# Altium footprint library pira-smart-pcblib.PcbLib: 9 footprints
Each footprint in its own frame and in the unit in brackets; x right, y up, seen from the top. Pads: shape width x height; smd on the part's side, far side on the other; paste and mask are expansions set on the pad; w line width, h text height; cw(c..) or ccw(c..) is an arc to the next point about the centre after c.
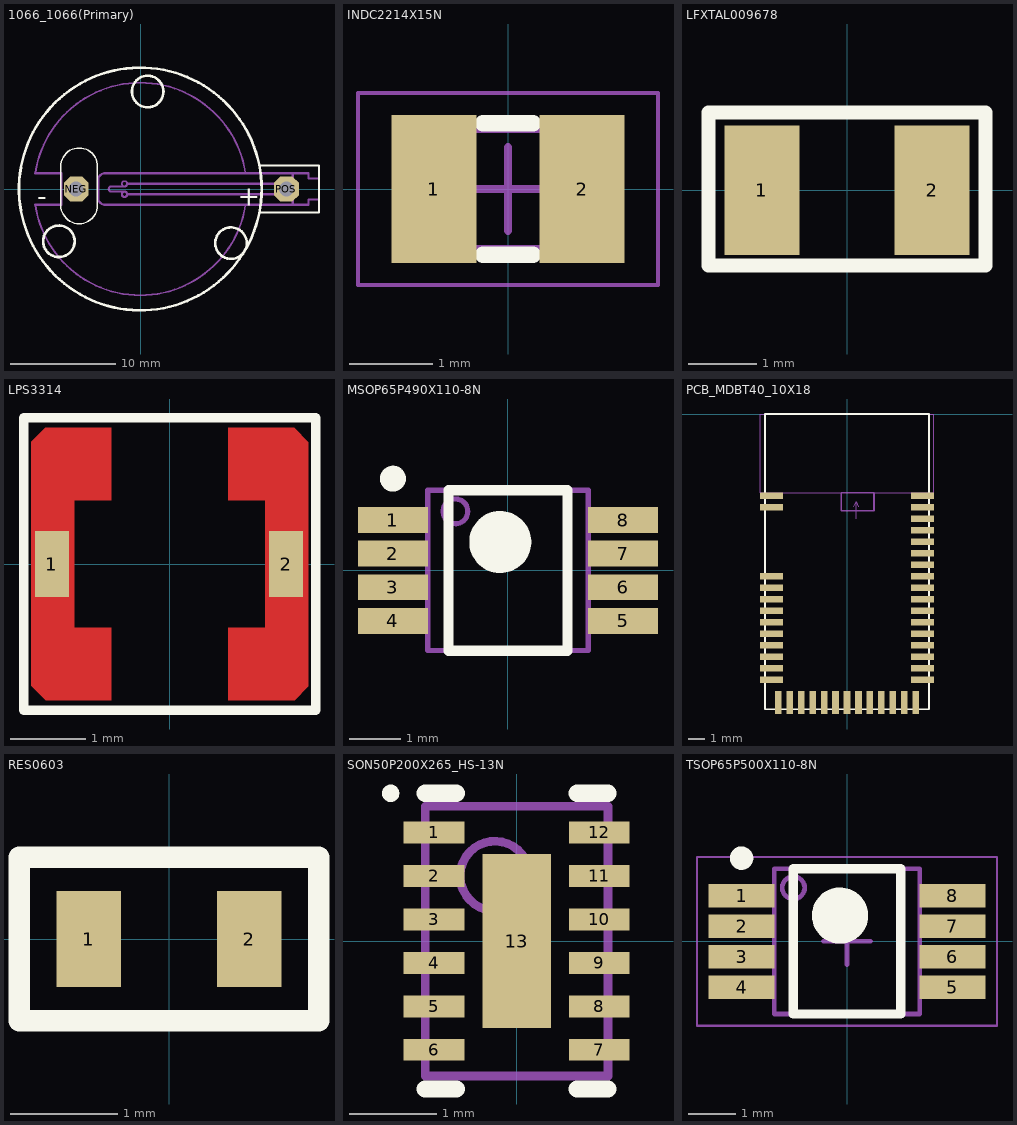
[diagram p0: the footprints below, top view; thin cyan lines are the x and y axes]

## 1066_1066(Primary) [mm]
pads (2):
  oct 2.35x2.35 hole 1.422: NEG(-6.125,0) POS(13.875,0)
Top Overlay:
  circle w0.254: c-0.025,0 r11.543
  circle w0.254: c0.675,9.275 r1.5
  circle w0.254: c-7.775,-4.975 r1.5
  circle w0.254: c8.6,-5.15 r1.5
  lines w0.127: -7.6,-1.75 -7.6,2.15 cw(c-5.85,2.15) -4.1,2.15 -4.1,-1.775 ; -7.6,-1.55 ccw(c-5.85,-1.55) -4.1,-1.55
  lines w0.203: 11.475,-2.23 16.975,-2.23 16.975,2.23 11.475,2.23
  text "-" at -9.816,-1.598 h1.88
  text "+" at 9.256,-1.597 h1.88
Mechanical 1:
  circle w0.203: c-1.529,-0.502 r0.254
  circle w0.127: c-1.529,0.502 r0.254
  lines w0.127: -3.025,-0.004 -3.025,0.004 ; -1.275,-0.504 -1.275,-0.5
  lines w0.178: -10.012,-1.582 ccw(c-0.025,0) 9.962,-1.582 ; -10.012,1.582 cw(c-0.025,0) 9.962,1.582
  lines w0.203: -10.025,-1.5 -7.525,-1.5 -7.525,1.5 -10.025,1.5 ; -3.025,-0.004 cw(c-2.771,-0.004) -2.771,0.25 -1.529,0.25 ccw(c-1.529,0.504) -1.275,0.5 ; -3.025,0.004 ccw(c-2.771,0.004) -2.771,-0.25 -1.529,-0.25 cw(c-1.529,-0.504) -1.275,-0.5 ; -1.275,-0.5 14.475,-0.5 ; -1.275,0.504 -1.275,0.5 14.475,0.5 ; 16.975,-1 15.975,-1 15.975,-1.5 14.475,-1.5 ; 16.975,1 15.975,1 15.975,1.5 14.475,1.5 ; 14.475,-1.5 9.975,-1.5 -3.39,-1.5 cw(c-3.39,-0.865) -4.025,-0.865 -4.025,0.865 cw(c-3.39,0.865) -3.39,1.5 9.975,1.5 14.475,1.5 ; 14.475,-1.5 14.475,-0.5 ; 14.475,-0.5 14.475,0.5 ; 14.475,0.5 14.475,1.5
3D body "User Library-20mm_coin_holder.step": height 8.68, standoff -3.49, extent -10.89,-11.5 16.541,11.5

## INDC2214X15N [mm] "Chip Inductor, 2-Leads, Body 2.20x1.45mm, IPC Medium Density"
height 1.5
pads (2):
  rect 1.02x1.78 smd: 1(-0.89,0) 2(0.89,0)
Top Overlay:
  lines w0.2: -0.3,-0.79 0.3,-0.79 ; -0.3,0.79 0.3,0.79
Mechanical 15:
  lines w0.05: -1.8,-1.15 1.8,-1.15 1.8,1.15 -1.8,1.15 -1.8,-1.15
  lines w0.1: -0.5,0 0.5,0 ; 0,-0.5 0,0.5
Mechanical 29:
  lines w0.1: -1.1,-0.725 1.1,-0.725 1.1,0.725 -1.1,0.725 -1.1,-0.725
  text "'.Designator'" at -1,-0.25 h0.5
3D body "Coilcraft-PFL2015.STEP": height 1.49, standoff -0.01, extent -1.1,-0.725 1.1,0.725

## LFXTAL009678 [mm]
pads (2):
  rect 1.1x1.9 smd: 1(-1.25,0) 2(1.25,0)
Top Overlay:
  lines w0.2: -2.032,-1.1 2.032,-1.1 2.032,1.143 -2.032,1.143 -2.032,-1.1
Mechanical 29:
  lines w0.1: -2.032,-1.1 2.032,-1.1 2.032,1.1 -2.032,1.1 -2.032,-1.1
  text ".Designator" at -1.3,-0.5 h1.1
3D body: height 0.9, standoff 0, extent -1.651,-0.889 1.651,0.889

## LPS3314 [mm]
pads (2):
  rect 0.45x0.881 smd: 1(-1.575,0) 2(1.55,0)
Top Layer:
  region: -1.85,-1.625 -1.85,1.634 -1.666,1.818 -0.781,1.818 -0.781,0.85 -1.275,0.85 -1.275,-0.85 -0.781,-0.85 -0.781,-1.818 -1.657,-1.818
  region: 0.781,-1.818 0.781,-0.85 1.275,-0.85 1.275,0.85 0.781,0.85 0.781,1.818 1.657,1.818 1.85,1.625 1.85,-1.634 1.666,-1.818
Top Overlay:
  lines w0.127: -1.95,-1.95 -1.95,1.95 1.95,1.95 1.95,-1.95 -1.95,-1.95
3D body "Coilcraft-LPS3314.STEP": height 1.4, standoff 0, extent -1.7,-1.7 1.7,1.7

## MSOP65P490X110-8N [mm] "TSOP, 8-Leads, Body 3.00x3.00mm, Pitch 0.65mm, IPC Medium Density"
height 1.1
pads (8):
  rect 1.35x0.5 smd: 1(-2.225,0.975) 2(-2.225,0.325) 3(-2.225,-0.325) 4(-2.225,-0.975) 5(2.225,-0.975) 6(2.225,-0.325) 7(2.225,0.325) 8(2.225,0.975)
Top Overlay:
  circle w0.25: c-2.225,1.775 r0.125
  circle w0.6: c-0.15,0.55 r0.3
  lines w0.2: -1.15,-1.55 -1.15,1.55 1.15,1.55 1.15,-1.55 -1.15,-1.55
Mechanical 29:
  circle w0.1: c-1.016,1.143 r0.239
  lines w0.1: -1.55,-1.55 -1.55,1.55 1.55,1.55 1.55,-1.55 -1.55,-1.55
  text "'.Designator'" at -1.143,-0.381 h0.8
3D body "TSOP65P490X110-8N.step": height 1.1, standoff 0, extent -2.45,-1.55 2.45,1.55

## PCB_MDBT40_10X18 [mm]
pads (42):
  rect 1.4x0.4 smd: 1(-4.6,-5) 2(-4.6,-5.7) 3(-4.6,-9.9) 4(-4.6,-10.6) 5(-4.6,-11.3) 6(-4.6,-12) 7(-4.6,-12.7) 8(-4.6,-13.4) 9(-4.6,-14.1) 10(-4.6,-14.8) 11(-4.6,-15.5) 12(-4.6,-16.2) 26(4.6,-16.2) 27(4.6,-15.5) 28(4.6,-14.8) 29(4.6,-14.1) 30(4.6,-13.4) 31(4.6,-12.7) 32(4.6,-12) 33(4.6,-11.3) 34(4.6,-10.6) 35(4.6,-9.9) 36(4.6,-9.2) 37(4.6,-8.5) 38(4.6,-7.8) 39(4.6,-7.1) 40(4.6,-6.4) 41(4.6,-5.7) 42(4.6,-5)
  rect 0.4x1.4 smd: 13(-4.2,-17.6) 14(-3.5,-17.6) 15(-2.8,-17.6) 16(-2.1,-17.6) 17(-1.4,-17.6) 18(-0.7,-17.6) 19(0,-17.6) 20(0.7,-17.6) 21(1.4,-17.6) 22(2.1,-17.6) 23(2.8,-17.6) 24(3.5,-17.6) 25(4.2,-17.6)
Top Overlay:
  lines w0.1: -5,-18 5,-18 5,0 0,0 -5,0 -5,-18
Mechanical 2:
  lines w0.05: -5.3,-4.8 -5.3,0 5.3,0 5.3,-4.8 1.65,-4.8 -0.35,-4.8 -5.3,-4.8
  text "No ground pad" at -2.54,-2.54 h0.45
Mechanical 3:
  lines w0.05: 0.4,-5.65 0.55,-5.35 ; 0.55,-6.375 0.55,-5.35 ; 0.7,-5.65 0.55,-5.35
  lines w0.1: -0.35,-5.9 -0.35,-4.8 1.65,-4.8 1.65,-5.9 -0.35,-5.9
  text "Toplayer no ground pad" at -3.1,-6.725 h0.3

## RES0603 [mm]
pads (2):
  rect 0.6x0.9 smd: 1(-0.75,0) 2(0.75,0)
Top Overlay:
  lines w0.2: -1.397,-0.762 1.397,-0.762 1.397,0.762 -1.397,0.762 -1.397,-0.762
Mechanical 29:
  lines w0.1: -1.4,-0.75 1.4,-0.75 1.4,0.75 -1.4,0.75 -1.4,-0.75
  text ".Designator" at -1.1,-0.4 h0.6
3D body "R0603.step": height 0.8, standoff 0, extent -0.8,-0.42 0.8,0.42

## SON50P200X265_HS-13N [mm] "SON, 12-Leads, Body 3.00x2.00mm, Pitch 0.50mm, Thermal Pad 2.00x0.79mm, IPC Medium Density"
height 2.65
pads (13):
  rect 0.7x0.25 smd: 1(-0.95,1.25) 2(-0.95,0.75) 3(-0.95,0.25) 4(-0.95,-0.25) 5(-0.95,-0.75) 6(-0.95,-1.25) 7(0.95,-1.25) 8(0.95,-0.75) 9(0.95,-0.25) 10(0.95,0.25) 11(0.95,0.75) 12(0.95,1.25)
  rect 0.79x2 smd: 13(0,0)
Top Overlay:
  circle w0.1: c-1.45,1.7 r0.05
  lines w0.2: -1.05,-1.7 -0.695,-1.7 ; -1.05,1.7 -0.695,1.7 ; 0.695,-1.7 1.05,-1.7 ; 0.695,1.7 1.05,1.7
Mechanical 29:
  circle w0.1: c-0.25,0.75 r0.4
  lines w0.1: -1.05,-1.55 -1.05,1.55 1.05,1.55 1.05,-1.55 -1.05,-1.55
  text "'.Designator'" at -0.889,-0.762 h0.8
3D body "SON50P200X265_HS-13N.step": height 2.65, standoff 0, extent -1.13,-1.55 1.13,1.55

## TSOP65P500X110-8N [mm] "TSOP, 8-Leads, Body 3.00x3.00mm, Pitch 0.65mm, IPC Medium Density"
height 1.1
pads (8):
  rect 1.4x0.5 smd: 1(-2.25,0.975) 2(-2.25,0.325) 3(-2.25,-0.325) 4(-2.25,-0.975) 5(2.25,-0.975) 6(2.25,-0.325) 7(2.25,0.325) 8(2.25,0.975)
Top Overlay:
  circle w0.6: c-0.15,0.55 r0.3
  circle w0.25: c-2.25,1.775 r0.125
  lines w0.2: -1.15,-1.55 1.15,-1.55 1.15,1.55 -1.15,1.55 -1.15,-1.55
Mechanical 15:
  lines w0.05: -3.2,-1.8 3.2,-1.8 3.2,1.8 -3.2,1.8 -3.2,-1.8
  lines w0.1: -0.5,0 0.5,0 ; 0,-0.5 0,0.5
Mechanical 29:
  circle w0.1: c-1.143,1.143 r0.239
  lines w0.1: -1.55,-1.55 1.55,-1.55 1.55,1.55 -1.55,1.55 -1.55,-1.55
  text "'.Designator'" at -0.889,-0.381 h0.8
3D body: height 1.1, standoff 0.1, extent -1.55,-1.55 1.55,1.55